# EAGLE library part X__JST_SH_STEHEND_5 (library 16112011___connector)
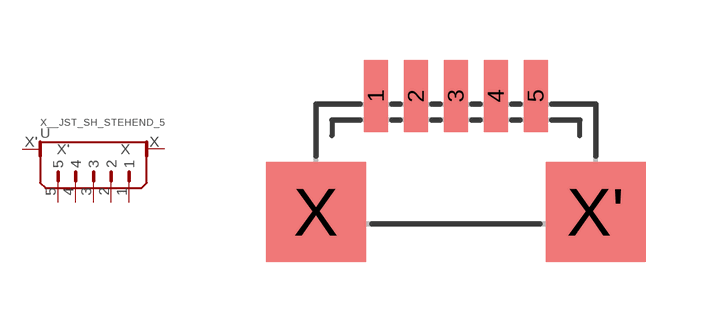
[diagram p36: symbol with the pads of JST_SH_STEHEND_5; footprint JST_SH_STEHEND_5]

Designator prefix -

## X__JST_SH_STEHEND_5  [JST_SH_STEHEND_5]
1  1
2  2
3  3
4  4
5  5
X  X
X'  X'

## Footprint JST_SH_STEHEND_5 (pad centres in mm)
smd 0.6 x 1.8: 1 0,0; 2 1,0; 3 2,0; 4 3,0; 5 4,0
smd 2.5 x 2.5: X -1.5,-2.9; X' 5.5,-2.9